# Altium footprint library OSP_DJB_Rigid.PcbLib: 18 footprints (part 1 of 2)
Each footprint in its own frame and in the unit in brackets; x right, y up, seen from the top. Pads: shape width x height; smd on the part's side, far side on the other; paste and mask are expansions set on the pad; w line width, h text height; cw(c..) or ccw(c..) is an arc to the next point about the centre after c.
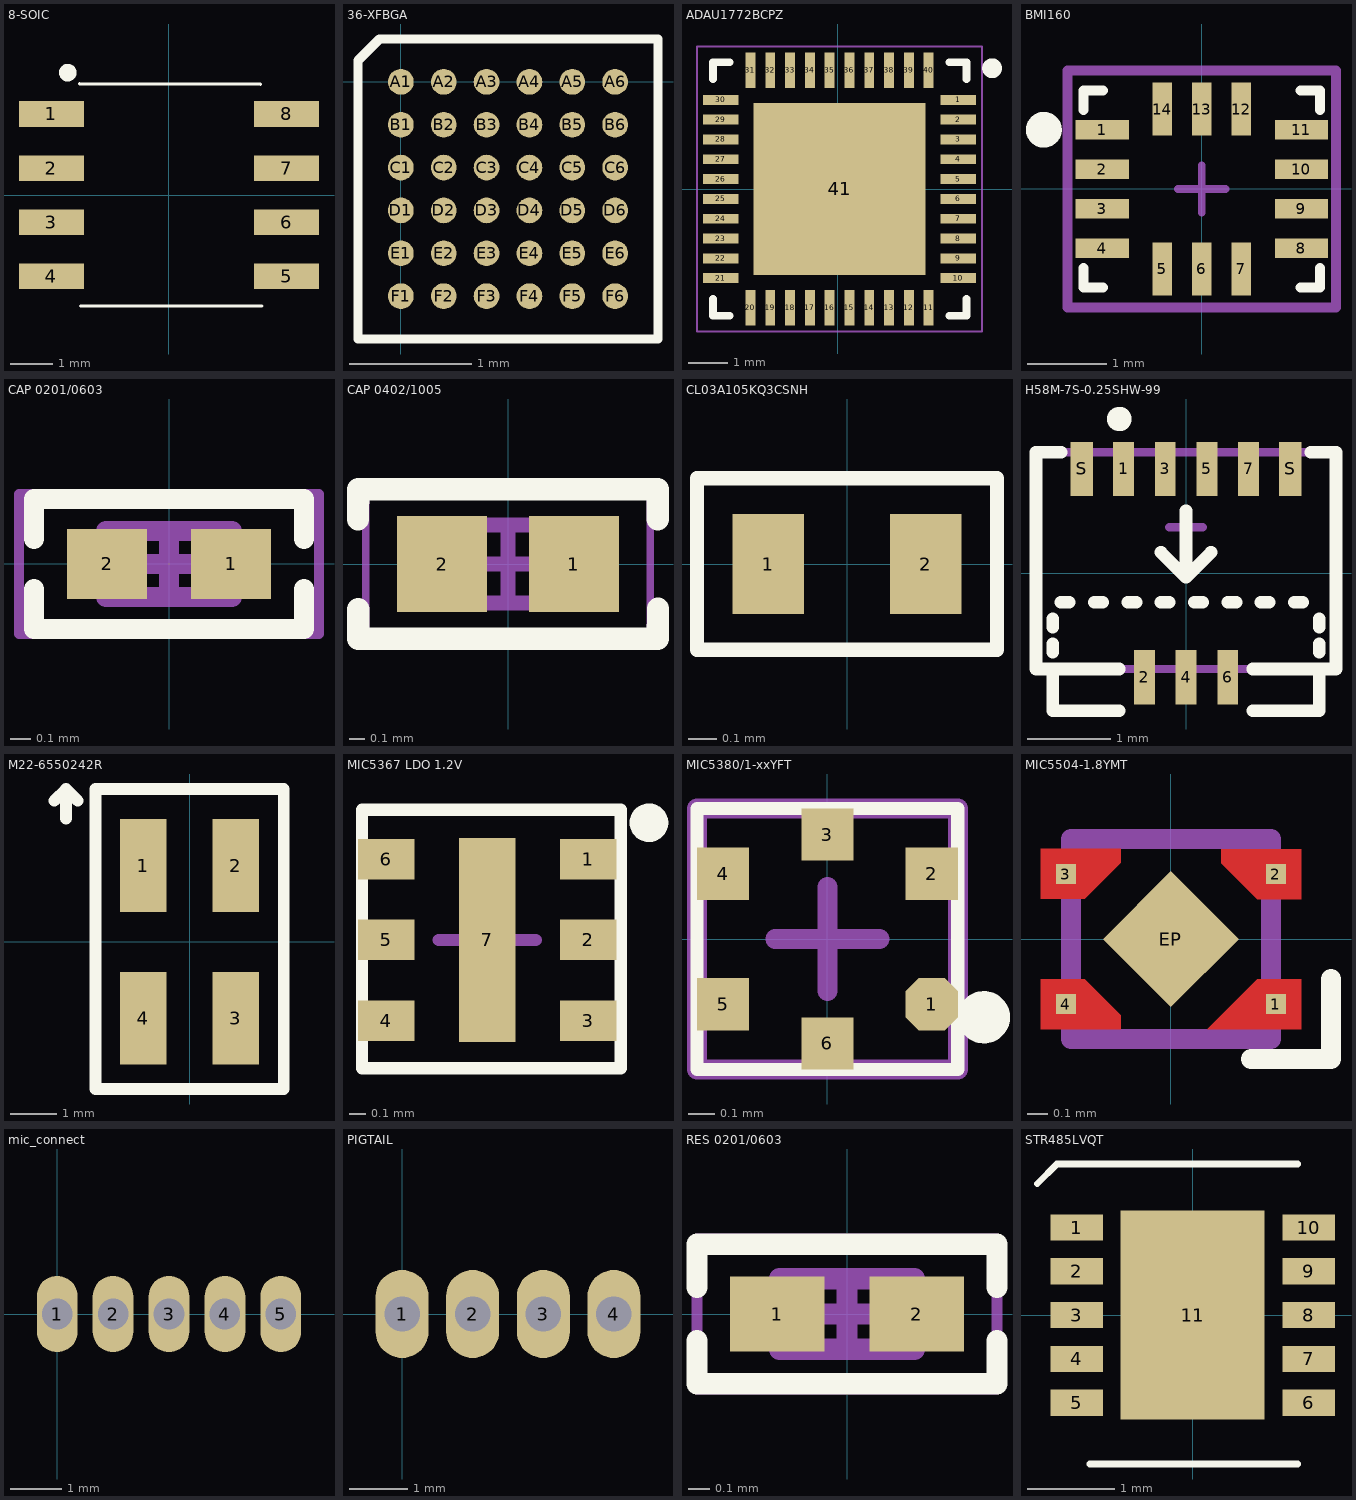
[diagram p0: the footprints below, top view; thin cyan lines are the x and y axes]

## 8-SOIC [mm]
pads (8):
  rect 1.52x0.6 smd: 1(-2.76,1.905) 2(-2.76,0.635) 3(-2.76,-0.635) 4(-2.76,-1.905) 5(2.76,-1.905) 6(2.76,-0.635) 7(2.76,0.635) 8(2.76,1.905)
Top Overlay:
  circle w0.254: c-2.375,2.875 r0.079
  lines w0.076: -2.1,2.615 2.15,2.6 ; -2.075,-2.6 2.175,-2.6
3D body "SOIC-8_ONS.step": height 1.76, standoff 0, extent -3.099,-2.502 3.099,2.502

## 36-XFBGA [mm]
pads (36):
  round 0.21 smd mask+0.05: A1(0,0) A2(0.35,0) A3(0.7,0) A4(1.05,0) A5(1.4,0) A6(1.75,0) B1(0,-0.35) B2(0.35,-0.35) B3(0.7,-0.35) B4(1.05,-0.35) B5(1.4,-0.35) B6(1.75,-0.35) C1(0,-0.7) C2(0.35,-0.7) C3(0.7,-0.7) C4(1.05,-0.7) C5(1.4,-0.7) C6(1.75,-0.7) D1(0,-1.05) D2(0.35,-1.05) D3(0.7,-1.05) D4(1.05,-1.05) D5(1.4,-1.05) D6(1.75,-1.05) E1(0,-1.4) E2(0.35,-1.4) E3(0.7,-1.4) E4(1.05,-1.4) E5(1.4,-1.4) E6(1.75,-1.4) F1(0,-1.75) F2(0.35,-1.75) F3(0.7,-1.75) F4(1.05,-1.75) F5(1.4,-1.75) F6(1.75,-1.75)
Top Overlay:
  lines w0.076: -0.35,-2.1 2.1,-2.1 2.1,0.35 -0.175,0.35 -0.35,0.175 -0.35,-2.1
3D body "WLCSP36_OPT1_LAT.step": height 0.49, standoff 0, extent -0.166,-1.916 1.916,0.166

## ADAU1772BCPZ [mm] "General Purpose Audio Codec 4ADC / 2DAC Ch 40-Pin LFCSP"
height 0.75
pads (41):
  rect 0.9x0.25 smd: 1(3.05,2.261) 2(3.05,1.761) 3(3.05,1.261) 4(3.05,0.761) 5(3.05,0.261) 6(3.05,-0.239) 7(3.05,-0.739) 8(3.05,-1.239) 9(3.05,-1.739) 10(3.05,-2.239) 21(-2.95,-2.239) 22(-2.95,-1.739) 23(-2.95,-1.239) 24(-2.95,-0.739) 25(-2.95,-0.239) 26(-2.95,0.261) 27(-2.95,0.761) 28(-2.95,1.261) 29(-2.95,1.761) 30(-2.95,2.261)
  rect 0.25x0.9 smd: 11(2.3,-2.989) 12(1.8,-2.989) 13(1.3,-2.989) 14(0.8,-2.989) 15(0.3,-2.989) 16(-0.2,-2.989) 17(-0.7,-2.989) 18(-1.2,-2.989) 19(-1.7,-2.989) 20(-2.2,-2.989) 31(-2.2,3.011) 32(-1.7,3.011) 33(-1.2,3.011) 34(-0.7,3.011) 35(-0.2,3.011) 36(0.3,3.011) 37(0.8,3.011) 38(1.3,3.011) 39(1.8,3.011) 40(2.3,3.011)
  rect 4.35x4.35 smd: 41(0.05,0.011)
Top Overlay:
  circle w0.25: c3.9,3.061 r0.125
  lines w0.2: -3.15,-2.764 -3.15,-3.189 -2.725,-3.189 ; -3.15,2.786 -3.15,3.211 -2.725,3.211 ; 2.825,-3.189 3.25,-3.189 3.25,-2.764 ; 2.825,3.211 3.25,3.211 3.25,2.786
Top Solder:
  region: 2.55,3.585 -2.45,3.585 -2.45,-3.565 2.55,-3.565
  region: 3.625,2.51 -3.525,2.51 -3.525,-2.49 3.625,-2.49
Mechanical 16:
  lines w0.05: -3.55,-3.589 3.65,-3.589 3.65,3.611 -3.55,3.611 -3.55,-3.589
  lines w0.1: -0.45,0.011 0.55,0.011 ; 0.05,-0.489 0.05,0.511
3D body "CP_40_10_ADI.step": height 0.81, standoff 0, extent -3,-3.023 3.096,3.073

## BMI160 [mm] "IMU accelerometer"
pads (14):
  rect 0.675x0.25 smd: 1(-1.263,0.75) 2(-1.262,0.25) 3(-1.263,-0.25) 4(-1.262,-0.75) 8(1.262,-0.75) 9(1.262,-0.25) 10(1.263,0.25) 11(1.262,0.75)
  rect 0.25x0.675 smd: 5(-0.5,-1.013) 6(0,-1.012) 7(0.5,-1.012) 12(0.5,1.013) 13(0,1.013) 14(-0.5,1.013)
Top Overlay:
  circle w0.254: c-2,0.75 r0.1
  lines w0.127: -1.5,-1 -1.5,-1.25 -1.25,-1.25 ; -1.5,1 -1.5,1.25 -1.25,1.25 ; 1.25,-1.25 1.5,-1.25 1.5,-1 ; 1.25,1.25 1.5,1.25 1.5,1
Mechanical 15:
  lines w0.1: -0.3,0 0.3,0 ; 0,-0.3 0,0.3
  lines w0.127: -1.7,-1.5 -1.7,1.5 1.7,1.5 1.7,-1.5 -1.7,-1.5
3D body "QFN50P300X250X83-14N.step": height 0.83, standoff 0, extent -1.52,-1.27 1.52,1.27

## CAP 0201/0603 [mm] "Chip Capacitor, 2-Leads, Body 0.60x0.30mm, IPC Medium Density"
pads (2):
  rect 0.4x0.35 smd: 1(0.31,0) 2(-0.31,0)
Top Overlay:
  lines w0.1: -0.675,-0.125 -0.675,-0.325 0.675,-0.325 0.675,-0.125 ; -0.675,0.125 -0.675,0.325 0.675,0.325 0.675,0.125
Mechanical 13:
  lines w0.1: -0.315,-0.165 0.315,-0.165 0.315,0.165 -0.315,0.165 -0.315,-0.165
Mechanical 15:
  lines w0.05: -0.75,-0.35 0.75,-0.35 0.75,0.35 -0.75,0.35 -0.75,-0.35
  lines w0.1: -0.165,0 0.165,0 ; 0,-0.165 0,0.165
3D body "CAP 0201.STEP": height 0.3, standoff 0, extent -0.3,-0.15 0.3,0.15

## CAP 0402/1005 [mm] "Chip Capacitor, 2-Leads, Body 1.02x0.51mm, IPC Medium Density"
pads (2):
  rect 0.6x0.64 smd: 1(0.44,0) 2(-0.44,0)
Top Overlay:
  lines w0.15: -1,-0.3 -1,-0.5 1,-0.5 1,-0.3 ; -1,0.3 -1,0.5 1,0.5 1,0.3
Mechanical 13:
  lines w0.1: -0.515,-0.26 0.515,-0.26 0.515,0.26 -0.515,0.26 -0.515,-0.26
Mechanical 15:
  lines w0.05: -0.95,-0.5 0.95,-0.5 0.95,0.5 -0.95,0.5 -0.95,-0.5
  lines w0.1: -0.26,0 0.26,0 ; 0,-0.26 0,0.26
3D body "0402 cap.STEP": height 0.52, standoff 0, extent -0.5,-0.262 0.5,0.262

## CL03A105KQ3CSNH [mm]
pads (2):
  rect 0.25x0.35 smd mask+0.05: 1(-0.275,0) 2(0.275,0)
Top Overlay:
  lines w0.05: -0.525,-0.3 -0.525,0 -0.525,0.3 0.525,0.3 0.525,-0.3 -0.525,-0.3
3D body "User Library-cap_0201.sldprt": height 0.3, standoff 0, extent -0.3,-0.15 0.3,0.15

## H58M-7S-0.25SHW-99 [mm] "Hirose FH58M-7S-0.25SHW(99) Top+Bottom Contacts 7-pin FFC Connector"
pads (9):
  rect 0.25x0.65 smd: 1(-0.75,1.25) 2(-0.5,-1.25) 3(-0.25,1.25) 4(0,-1.25) 5(0.25,1.25) 6(0.5,-1.25) 7(0.75,1.25)
  rect 0.27x0.65 smd: S(-1.25,1.25) S(1.25,1.25)
Top Overlay:
  circle w0.254: c-0.8,1.85 r0.02
  lines w0.152: -1.6,-1.15 -1.6,-1.65 -0.8,-1.65 ; -1.6,-0.95 -1.6,-0.85 ; -1.6,-0.65 -1.6,-0.55 ; -1.5,-0.35 -1.4,-0.35 ; -1.5,1.45 -1.8,1.45 -1.8,-1.15 -0.8,-1.15 ; -1.1,-0.35 -1,-0.35 ; -0.7,-0.35 -0.6,-0.35 ; -0.3,-0.35 -0.2,-0.35 ; -0.3,0.25 0,-0.05 ; 0,0.75 0,-0.05 ; 0.1,-0.35 0.2,-0.35 ; 0.3,0.25 0,-0.05 ; 0.5,-0.35 0.6,-0.35 ; 0.8,-1.65 1.6,-1.65 1.6,-1.15 ; 0.8,-1.15 1.8,-1.15 1.8,1.45 1.5,1.45 ; 0.9,-0.35 1,-0.35 ; 1.3,-0.35 1.4,-0.35 ; 1.6,-0.95 1.6,-0.85 ; 1.6,-0.65 1.6,-0.55
Mechanical 15:
  lines w0.1: -0.2,0.55 0.2,0.55 ; 0,0.35 0,0.75 ; -1.8,-1.15 1.8,-1.15 1.8,1.45 -1.8,1.45 -1.8,-1.15
3D body "FH58M-7S-0.25SHW.stp": height 0.9, standoff 0, extent -1.75,-1.65 1.75,1.45

## M22-6550242R [mm] "4 Position Receptacle Connector 0.079\" (2.00mm) Surface Mount, Right Angle Gold"
pads (4):
  rect 1x2 smd: 1(-1,1.65) 2(1,1.65) 3(1,-1.65) 4(-1,-1.65)
Top Overlay:
  lines w0.254: -2.667,2.667 -2.667,3.302 ; -2.413,3.048 -2.667,3.302 ; -2.667,3.302 -2.921,3.048 -2.667,3.302 ; -2.032,-3.175 -2.032,3.302 2.032,3.302 2.032,-3.175 -2.032,-3.175
3D body "m22-6550242_asm.stp": height 4.01, standoff 0.01, extent -2.15,-2.285 2.15,10.16

## MIC5367 LDO 1.2V [mm] "MIC5367 LDO 1.2V"
pads (7):
  rect 0.35x0.25 smd mask+0.01: 1(1069.473,1269.206) 2(1069.473,1268.706) 3(1069.473,1268.206) 4(1068.223,1268.206) 5(1068.223,1268.706) 6(1068.223,1269.206)
  rect 0.35x1.26 smd mask+0.01: 7(1068.848,1268.706)
Top Overlay:
  circle w0.127: c1069.848,1269.431 r0.056
  lines w0.076: 1068.073,1267.911 1068.073,1269.511 1069.673,1269.511 1069.673,1267.911 1068.073,1267.911
Mechanical 16:
  lines w0.076: 1068.548,1268.706 1069.148,1268.706 ; 1068.848,1268.406 1068.848,1269.006
3D body: height 0.8, standoff 0, extent 1068.075,1267.925 1069.675,1269.525

## MIC5380/1-xxYFT [mm] "LDO 2fixed Outputs"
pads (6):
  oct 0.2x0.2 smd mask+0.01: 1(0.4,-0.25)
  rect 0.2x0.2 smd mask+0.01: 2(0.4,0.25) 3(0,0.4) 4(-0.4,0.25) 5(-0.4,-0.25) 6(0,-0.4)
Top Overlay:
  circle w0.1: c0.6,-0.3 r0.05
  lines w0.051: -0.5,-0.5 -0.5,0.5 0.5,0.5 0.5,-0.5 -0.5,-0.5
Mechanical 15:
  lines w0.076: -0.2,0 0.2,0 ; 0,-0.2 0,0.2 ; -0.5,-0.5 -0.5,0.5 0.5,0.5 0.5,-0.5 -0.5,-0.5
3D body: height 0.5, standoff 0, extent -0.5,-0.5 0.5,0.5

## MIC5504-1.8YMT [mm] "Micrel MIC5504-1.8YMT 1.8V 300mA LDO"
pads (5):
  rect 0.1x0.1 smd: 1(0.525,-0.325) 2(0.525,0.325) 3(-0.525,0.325) 4(-0.525,-0.325)
  rect 0.48x0.48 smd rot 135: EP(0,0)
Top Layer:
  region: -0.65,0.45 -0.65,0.2 -0.43,0.2 -0.25,0.38 -0.25,0.45
  region: -0.65,-0.45 -0.65,-0.2 -0.43,-0.2 -0.25,-0.38 -0.25,-0.45
  region: 0.65,0.45 0.65,0.2 0.43,0.2 0.25,0.38 0.25,0.45
  region: 0.18,-0.45 0.65,-0.45 0.65,-0.2 0.43,-0.2
Top Overlay:
  lines w0.1: 0.4,-0.6 0.8,-0.6 0.8,-0.2
Top Solder:
  region: 0.75,-0.55 0.75,0.55 -0.75,0.55 -0.75,-0.55
Mechanical 15:
  lines w0.1: -0.2,0 0.2,0 ; 0,-0.2 0,0.2 ; -0.5,-0.5 -0.5,0.5 0.5,0.5 0.5,-0.5 -0.5,-0.5
3D body: height 0.55, standoff 0.05, extent -0.5,-0.5 0.5,0.5
3D body: height 0.57, standoff 0, extent 0.15,-0.449 0.45,-0.151

## mic_connect [mm] "mic-reciever connector"
pads (5):
  oval 0.8x1.5 hole 0.6: 1(0,0) 2(1.1,0) 3(2.2,0) 4(3.3,0) 5(4.4,0)

## PIGTAIL [mm]
pads (4):
  oval 0.9x1.5 hole 0.6: 1(0,0) 2(1.2,0) 3(2.4,0) 4(3.6,0)

## RES 0201/0603 [mm] "Chip Resistor, 2-Leads, Body 0.60x0.30mm, IPC Medium Density"
pads (2):
  rect 0.44x0.35 smd: 1(-0.325,0) 2(0.325,0)
Top Overlay:
  lines w0.1: -0.7,-0.125 -0.7,-0.325 0.7,-0.325 0.7,-0.125 ; -0.7,0.125 -0.7,0.325 0.7,0.325 0.7,0.125
Mechanical 13:
  lines w0.1: -0.315,-0.165 -0.315,0.165 0.315,0.165 0.315,-0.165 -0.315,-0.165
Mechanical 15:
  lines w0.05: -0.7,-0.35 -0.7,0.35 0.7,0.35 0.7,-0.35 -0.7,-0.35
  lines w0.1: -0.165,0 0.165,0 ; 0,-0.165 0,0.165
3D body "RES 0201.STEP": height 0.21, standoff -0.01, extent -0.3,-0.15 0.3,0.15

## STR485LVQT [mm] "3.3V RS485 compatible with 1.8V I/Os and selectable speed 20Mbps or 250kbps"
pads (11):
  rect 0.6x0.3 smd: 1(-1.323,1) 2(-1.323,0.5) 3(-1.323,0) 4(-1.323,-0.5) 5(-1.323,-1) 6(1.323,-1) 7(1.323,-0.5) 8(1.323,0) 9(1.323,0.5) 10(1.323,1)
  rect 1.646x2.384 smd: 11(0,0)
Top Overlay:
  lines w0.076: -1.775,1.5 -1.55,1.725 1.2,1.725 ; -1.175,-1.7 1.2,-1.7
3D body "DFN10_3X3_STM.step": height 0.99, standoff 0, extent -1.566,-1.571 1.584,1.579